# Altium schematic symbol library Schlib2.SchLib: 7 symbols
Pins are listed as number, name and electrical type; pins without a type are passive.

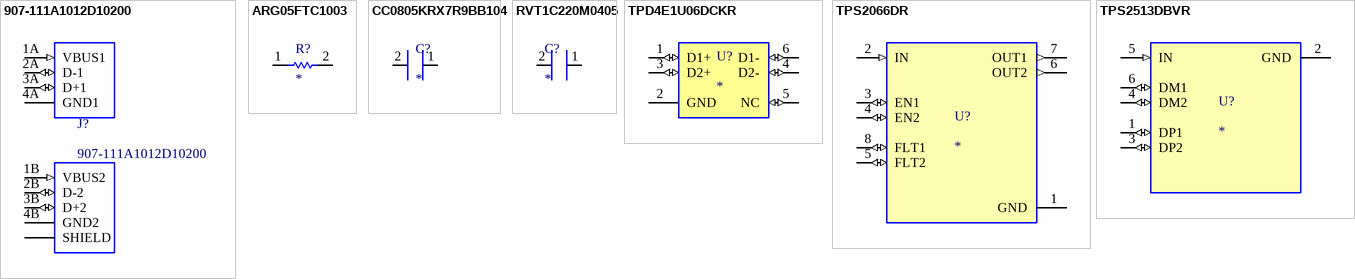
[diagram p0: symbols 907-111A1012D10200 to TPS2513DBVR]

## 907-111A1012D10200
designator J?
USB1035 Series 8 Position Dual Port Through Hole USB; Manufacturer: Jing Extension of the Electronic Co.; Supplier 1: Digi-Key; Manufacturer Part Number: 907-111A1012D10200; RoHS: Yes; Category: USB Connectors; Contact Material: Brass; Contact Plating: Gold; Orientation: Right Angle; Connector Type: USB; RoHS Compliant: Yes; Supplier Part Number 1: 2073-USB1035-GF-P-0-B-B-ND
footprint 907-111A1012D10200
pins: 1A VBUS1 (in), 1B VBUS2 (in), 2A D-1 (io), 2B D-2 (io), 3A D+1 (io), 3B D+2 (io), 4A GND1 (power), 4B GND2 (power), 9 SHIELD (power), 10 SHIELD (power), 11 SHIELD (power), 12 SHIELD (power)

## ARG05FTC1003
designator R?
Manufacturer: Viking Tech; Manufacturer part number: ARG05FTC1003; Resistance: 100K; Voltage Rating: 100V
footprint ARG05FTC1003 (Chip Resistor, 2-Leads, Body 2.00x1.23mm, IPC Medium Density)
pins: 1, 2

## CC0805KRX7R9BB104
designator C?
贴片电容（MLCC） 100nF ±10% 50V X7R 0805; Manufacturer: Yageo; Manufacturer Part Number: CC0805KRX7R9BB104; Material: Ceramic; Insulation Resistance: 100GR; Supplier 1: Digi-Key; RoHS: Yes; Category: Ceramic Capacitors; Stock 1: 10785221; Pricing 1: 4000=0.01864, 8000=0.01734, 12000=0.01647, 28000=0.01560, 100000=0.01181 (USD); Mount: Surface Mount; Case/Package: 0805; Number of Pins: 2; Case Code (Metric): 2012; Case Code (Imperial): 0805; Min Operating Temperature: -55°C; Max Operating Temperature: 125°C; Tolerance: 10%; Dielectric: X7R; Capacitance: 100nF; Voltage: 50V; Packaging: Tape and Reel; Voltage Rating: 50V; Package Quantity: 1; Termination: SMD/SMT; Series: CC; Length: 2mm; Width: 0.049inch; Height: 0.85mm; Depth: 1.25mm; Thickness: 0.033inch; Radiation Hardening: No; RoHS Compliant: Yes; REACH SVHC: No SVHC; Lead Free: Lead Free; Halogen Free: Halogen Free; ComponentLink1URL: https://datasheet.ciiva.com/11786/0900766b80d84f1d-11786009.pdf?src-supplier=RSComponents; ComponentLink1Description: https://datasheet.ciiva.com/11786/0900766b80d84f1d-11786009.pdf?src-supplier=RSComponents; ComponentLink2URL: https://datasheet.ciiva.com/28450/1489800-28450805.pdf?src-supplier=Element14; ComponentLink2Description: https://datasheet.ciiva.com/28450/1489800-28450805.pdf?src-supplier=Element14; ComponentLink3URL: https://datasheet.ciiva.com/46393/1734573-46393307.pdf?src-supplier=Element14; ComponentLink3Description: https://datasheet.ciiva.com/46393/1734573-46393307.pdf?src-supplier=Element14; ComponentLink4URL: https://datasheet.ciiva.com/155/mlccorderingcode-155930.pdf?src-supplier=Digi-Key; ComponentLink4Description: https://datasheet.ciiva.com/155/mlccorderingcode-155930.pdf?src-supplier=Digi-Key; ComponentLink5URL: https://datasheet.ciiva.com/155/mlccorderingcode-155929.pdf?src-supplier=Digi-Key; ComponentLink5Description: https://datasheet.ciiva.com/155/mlccorderingcode-155929.pdf?src-supplier=Digi-Key; ComponentLink6URL: https://datasheet.ciiva.com/155/mlccorderingcode-155931.pdf?src-supplier=Digi-Key; ComponentLink6Description: https://datasheet.ciiva.com/155/mlccorderingcode-155931.pdf?src-supplier=Digi-Key; ComponentLink7URL: https://datasheet.ciiva.com/11464/upy-gphc-x7r-6-3v-to-50v-8-11464757.pdf?src-supplier=Avnet; ComponentLink7Description: https://datasheet.ciiva.com/11464/upy-gphc-x7r-6-3v-to-50v-8-11464757.pdf?src-supplier=Avnet; ComponentLink8URL: https://datasheet.ciiva.com/16625/upy-gphc-x7r-6-3v-to-50v-8-16625549.pdf?src-supplier=Avnet+Europe; ComponentLink8Description: https://datasheet.ciiva.com/16625/upy-gphc-x7r-6-3v-to-50v-8-16625549.pdf?src-supplier=Avnet+Europe; ComponentLink9URL: https://datasheet.ciiva.com/29242/445210-da-01-en-kerko-chip-0805-x7r-0-1uf-10proz-50vg-29242074.pdf?src-supplier=Conrad; ComponentLink9Description: https://datasheet.ciiva.com/29242/445210-da-01-en-kerko-chip-0805-x7r-0-1uf-10proz-50vg-29242074.pdf?src-supplier=Conrad; Supplier Part Number 1: 311-1140-2-ND
footprint CC0805KRX7R9BB104
pins: 1, 2

## RVT1C220M0405
designator C?
Manufacturer: ROQANG; Manufacturer Part Number: RVT1C220M0405; Capacitance: 22uF
footprint RVT1C220M0405 (Aluminum Electrolytic Capacitor, Body 4.30x4.30x5.80mm, IPC Low Density)
pins: 1, 2

## TPD4E1U06DCKR
designator U?
TVS DIODE 5.5VWM 15VC SC70-6; Manufacturer: Texas Instruments; Manufacturer Part Number: TPD4E1U06DCKR; Direction: Unidirectional; Capacitance: 1pF; Operating Supply Voltage: 5.5V; Polarity: Bidirectional; Number of Bidirectional Channels: 4; Min Breakdown Voltage: 6.5V; Clamping Voltage: 11V; Peak Pulse Power: 45W; Power Line Protection: Yes; Test Current: 1mA; Max Reverse Leakage Current: 10nA; Peak Pulse Current: 3A; Interface: LVDS,USB,Ethernet; Supplier 1: Digi-Key; Supplier Part Number 1: 296-39347-1-ND; RoHS: Yes; Category: Integrated Circuits (ICs); Pricing 1: 1=0.49000, 10=0.39900, 100=0.27140, 500=0.20352, 1000=0.15264 (USD); Mount: Surface Mount; Case/Package: SC; Number of Pins: 6; Min Operating Temperature: -40°C; Max Operating Temperature: 125°C; Package Quantity: 3000; Packaging: Tape and Reel; Reverse Standoff Voltage: 5.5V; Breakdown Voltage: 6.5V; Number of Channels: 4; Termination: SMD/SMT; ESD Protection: Yes; Working Voltage: 5.5V; Max Power Dissipation: 45W; Series: -; Length: 2.15mm; Width: 1.4mm; Height: 1mm; REACH SVHC: No SVHC; Lead Free: Lead Free; RoHS Compliant: Yes; ComponentLink1URL: https://datasheet.ciiva.com/12545/tpd4e1u06-224689-12545136.pdf?src-supplier=Mouser; ComponentLink1Description: https://datasheet.ciiva.com/12545/tpd4e1u06-224689-12545136.pdf?src-supplier=Mouser; ComponentLink2URL: https://datasheet.ciiva.com/6574/tpd4e1u06-6574672.pdf?src-supplier=Digi-Key; ComponentLink2Description: https://datasheet.ciiva.com/6574/tpd4e1u06-6574672.pdf?src-supplier=Digi-Key
footprint TPD4E1U06DCKR
pins: 1 D1+ (io), 2 GND (power), 3 D2+ (io), 4 D2- (io), 5 NC (io), 6 D1- (io)

## TPS2066DR
designator U?
Dual 1A, active-high, current-limited, power-distribution switches 8-SOIC -40 to 85; Manufacturer: Texas Instruments; Manufacturer Part Number: TPS2066DR; Number of Outputs: 2; Min Supply Voltage: 2.7V; Max Supply Voltage: 5.5V; Interface: On/Off; Fault Protection: Over Temperature; Output Configuration: High Side; Supplier 1: Digi-Key; RoHS: Yes; Category: Hot Swap Controllers; Stock 1: 1325; Pricing 1: 1=1.61000, 10=1.44400, 25=1.36200, 100=1.16050, 250=1.08968, 500=0.95348, 1000=0.89950 (USD); Case/Package: D; Number of Pins: 8; Weight: 0.002561oz; Min Operating Temperature: -40°C; Max Operating Temperature: 85°C; Packaging: Tape and Reel; Package Quantity: 2500; Max Input Voltage: 5.5V; Min Input Voltage: 2.7V; Series: -; Number of Switches: 2; Max Output Current: 1A; Radiation Hardening: No; Lead Free: Lead Free; RoHS Compliant: Yes; ComponentLink1URL: https://datasheet.ciiva.com/15108/getdatasheetpartid-322117-15108532.pdf?src-supplier=Verical; ComponentLink1Description: https://datasheet.ciiva.com/15108/getdatasheetpartid-322117-15108532.pdf?src-supplier=Verical; ComponentLink2URL: https://datasheet.ciiva.com/1962/tps2061-1962580.pdf?src-supplier=Digi-Key; ComponentLink2Description: https://datasheet.ciiva.com/1962/tps2061-1962580.pdf?src-supplier=Digi-Key; ComponentLink3URL: https://datasheet.ciiva.com/1962/tps2061-1962581.pdf?src-supplier=Digi-Key; ComponentLink3Description: https://datasheet.ciiva.com/1962/tps2061-1962581.pdf?src-supplier=Digi-Key; ComponentLink4URL: https://datasheet.ciiva.com/1962/tps2061-1962582.pdf?src-supplier=Digi-Key; ComponentLink4Description: https://datasheet.ciiva.com/1962/tps2061-1962582.pdf?src-supplier=Digi-Key; Supplier Part Number 1: 296-28004-1-ND
footprint TPS2066DR
pins: 1 GND (power), 2 IN (in), 3 EN1 (io), 4 EN2 (io), 5 FLT2 (io), 6 OUT2 (out), 7 OUT1 (out), 8 FLT1 (io)

## TPS2513DBVR
designator U?
USB Charging Port Controller Dual 5.5V 6-Pin SOT-23 T/R / IC USB PWR SW/CTRLR CHRG SOT23-6; Manufacturer: Texas Instruments; Manufacturer Part Number: TPS2513DBVR; Min Input Voltage: 4.5V; Output Current: 35mA; Operating Supply Current: 155uA; Number of Outputs: 2; Max Supply Current: 200uA; Supplier 1: Digi-Key; RoHS: Yes; Category: Power Management ICs; Pricing 1: 1=1.79000, 10=1.60700, 25=1.51600, 100=1.29150, 250=1.21264, 500=1.06106, 1000=1.00100 (USD); Mount: Surface Mount; Case/Package: SOT-23-6; Number of Pins: 6; Min Operating Temperature: -40°C; Max Operating Temperature: 125°C; Packaging: Tape and Reel; Package Quantity: 3000; Max Input Voltage: 5.5V; Operating Supply Voltage: 5.5V; Radiation Hardening: No; Lead Free: Lead Free; RoHS Compliant: Yes; ComponentLink1URL: https://datasheet.ciiva.com/29590/tps2514a-29590179.pdf?src-supplier=Digi-Key; ComponentLink1Description: https://datasheet.ciiva.com/29590/tps2514a-29590179.pdf?src-supplier=Digi-Key; ComponentLink2URL: https://datasheet.ciiva.com/26909/getdatasheetpartid-741816-26909231.pdf?src-supplier=Verical; ComponentLink2Description: https://datasheet.ciiva.com/26909/getdatasheetpartid-741816-26909231.pdf?src-supplier=Verical; Supplier Part Number 1: 296-37668-1-ND
footprint TPS2513DBVR
pins: 1 DP1 (io), 2 GND (power), 3 DP2 (io), 4 DM2 (io), 5 IN (in), 6 DM1 (io)